# EAGLE library part ESP8266 (library esp)
ESP8266 The ESP8266 WiFi Module is a self contained SOC with integrated TCP/IP protocol stack that can give any microcontroller access to your WiFi network.
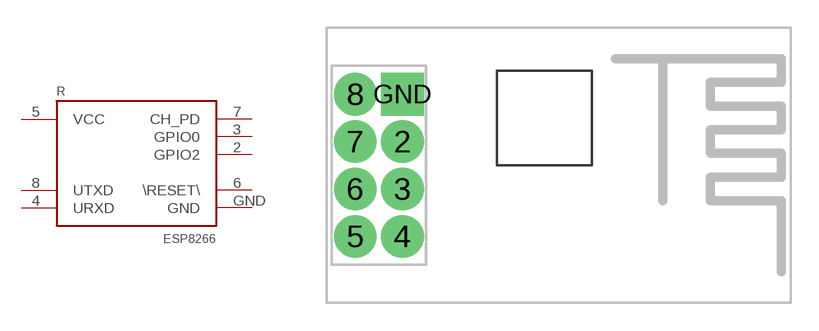
[diagram p0: symbol with the pads of ESP8266-01; footprint ESP8266-01]

Designator prefix R

## ESP8266  [ESP8266-01]
2  GPIO2
3  GPIO0
4  URXD
5  VCC  pwr
6  \RESET\
7  CH_PD
8  UTXD
GND  GND  pwr

## Footprint ESP8266-01 (pad centres in mm)
drill 1.499 pad 2.286: 2 1.27,1.27; 3 1.27,-1.27; 4 1.27,-3.81; 5 -1.27,-3.81; 6 -1.27,-1.27; 7 -1.27,1.27; 8 -1.27,3.81
drill 1.499 pad 2.286 square: GND 1.27,3.81